# Altium footprint library 2x10header-footprint.PcbLib: 2 footprints
Each footprint in its own frame and in the unit in brackets; x right, y up, seen from the top. Pads: shape width x height; smd on the part's side, far side on the other; paste and mask are expansions set on the pad; w line width, h text height; cw(c..) or ccw(c..) is an arc to the next point about the centre after c.

## 2x10Header [mm]
via 1.27,-12.7 diameter 1.27 hole 0.711
via 1.27,-10.16 diameter 1.27 hole 0.711
via 1.27,-7.62 diameter 1.27 hole 0.711
via 1.27,-5.08 diameter 1.27 hole 0.711
via 1.27,-2.54 diameter 1.27 hole 0.711
via -1.27,-12.7 diameter 1.27 hole 0.711
via -1.27,-10.16 diameter 1.27 hole 0.711
via -1.27,-7.62 diameter 1.27 hole 0.711
via -1.27,-5.08 diameter 1.27 hole 0.711
via -1.27,-2.54 diameter 1.27 hole 0.711
via 1.27,10.16 diameter 1.27 hole 0.711
via -1.27,10.16 diameter 1.27 hole 0.711
via -1.27,7.62 diameter 1.27 hole 0.711
via 1.27,7.62 diameter 1.27 hole 0.711
via 1.27,5.08 diameter 1.27 hole 0.711
via -1.27,5.08 diameter 1.27 hole 0.711
via -1.27,2.54 diameter 1.27 hole 0.711
via 1.27,2.54 diameter 1.27 hole 0.711
via -1.27,0 diameter 1.27 hole 0.711
via 1.27,0 diameter 1.27 hole 0.711

## PCBComponent_1 [mm]